# Altium schematic symbol library R45_Driver.SchLib: 35 symbols
Pins are listed as number, name and electrical type; pins without a type are passive.

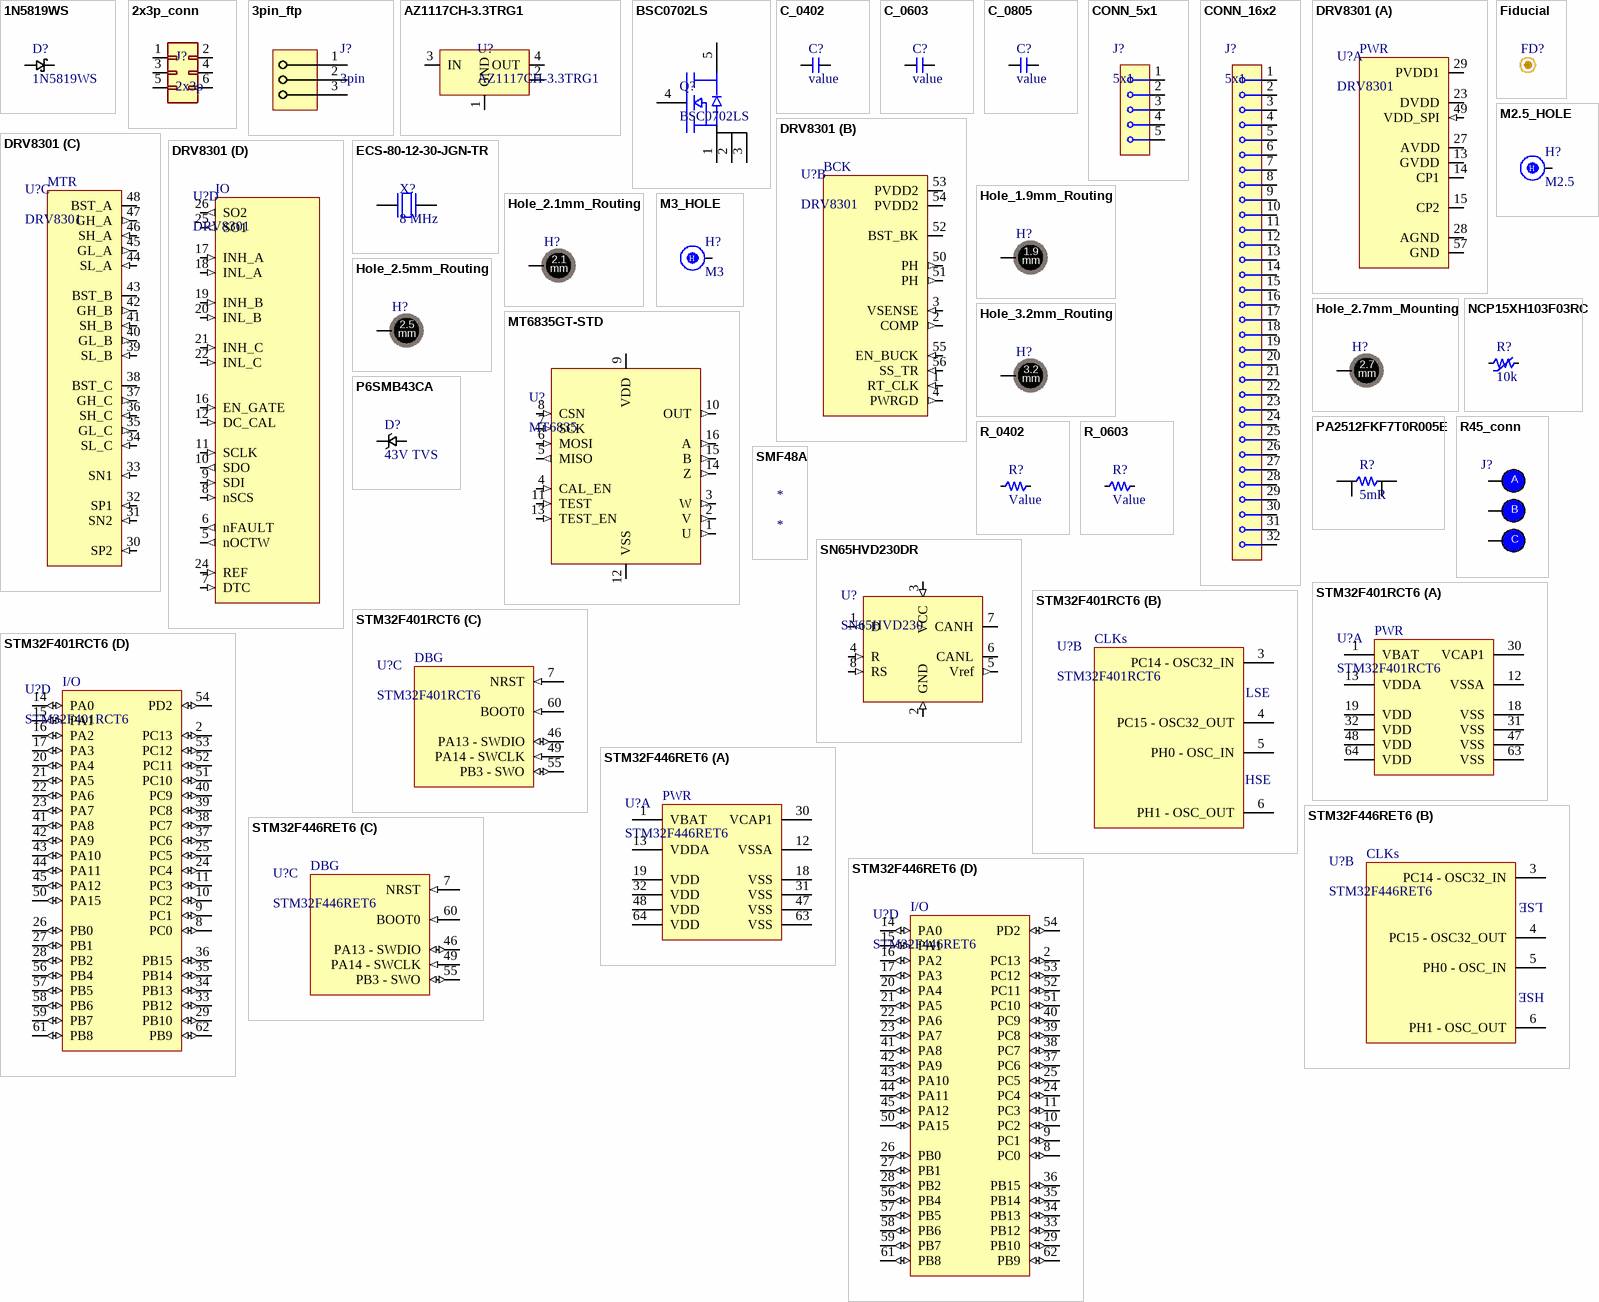
[diagram p0: symbols 1N5819WS to STM32F446RET6]

## 1N5819WS
designator D?
40V 600mV@1A 1A SOD-323  Schottky; LCSC: C191023
footprint SOD323 (Molded Diode, 2-Leads, Body 2.50x1.30mm, IPC Medium Density)
pins: 1, 2

## 2x3p_conn
designator J?, comment 2x3p
2x3 male pin header; LCSC: C124390
footprint 2x3p_conn
pins: 1, 2, 3, 4, 5, 6

## 3pin_ftp
designator J?, comment 3pin  (no BOM)
footprint 3pin_ftp
pins: 1, 2, 3

## AZ1117CH-3.3TRG1
designator U?
Fixed Positive LDO Regulator, 3.3V, 1.3V Dropout, BIPolar, PDSO3; Manufacturer: Diodes; Package Body Material: Plastic; Dropout Voltage1-Nom: 1.2V; Input Voltage Absolute-Max: 18V; Max Supply Voltage: 15V; Line Regulation-Max: 0.01%; Load Regulation-Max: 0.015%; Channels: 1; Output Current1-Max: 800mA; Output Voltage1-Max: 3.365V; Output Voltage1-Min: 3.235V; Regulator Type: FIXED POSITIVE SINGLE OUTPUT LDO REGULATOR; Voltage Tolerance-Max: 1.97%; Qualification Status: Not Qualified; Supplier 1: Future Electronics; Manufacturer Part Number: AZ1117CH-3.3TRG1; RoHS: Yes; Category: Voltage Regulators - Linear; Stock 1: 820000; Pricing 1: 4000=0.0702, 16000=0.0672, 40000=0.0653, 100000=0.0634, 160000=0.0607 (USD); Case/Package: SOP; Pins: 3; Package Shape: Rectangular; Terminal Finish: Tin; JESD-609 Code: e3; Adjustability: FIXED; Dropout Voltage1-Max: 1.3V; JESD-30 Code: R-PDSO-G3; Moisture Sensitivity Level: 1; Number of Outputs: 1; Operating Temperature, TJ-Max: 125°C; Operating Temperature, TJ-Min: -20°C; Output Voltage1-Nom: 3.3V; Package Style: SMALL OUTLINEMeter; Packaging: Tape and Reel; Surface Mount: Yes; Technology: BIPOLAR; Terminal Form: Gull Wing; Terminal Position: DUAL; Length: 6.5mm; Width: 3.5mm; Terminal Pitch: 2.3mm; Height - Seated (Max): 1.8mm; Reach SVHC Compliant: Yes; RoHS Compliant: Yes; ComponentLink1URL: https://datasheet.ciiva.com:443/pdfs/VipMasterIC/IC/DIOD/DIOD-S-A0007713706/DIOD-S-A0007713706-1.pdf?src-supplier=IHS+Markit; ComponentLink1Description: https://datasheet.ciiva.com:443/pdfs/VipMasterIC/IC/DIOD/DIOD-S-A0007713706/DIOD-S-A0007713706-1.pdf?src-supplier=IHS+Markit; ComponentLink2URL: https://datasheet.ciiva.com/29569/az1117c-29569914.pdf?src-supplier=Digi-Key; ComponentLink2Description: https://datasheet.ciiva.com/29569/az1117c-29569914.pdf?src-supplier=Digi-Key; ComponentLink3URL: https://datasheet.ciiva.com/29569/az1117c-29569915.pdf?src-supplier=Digi-Key; ComponentLink3Description: https://datasheet.ciiva.com/29569/az1117c-29569915.pdf?src-supplier=Digi-Key; ComponentLink4URL: https://datasheet.ciiva.com/29569/az1117c-29569913.pdf?src-supplier=Digi-Key; ComponentLink4Description: https://datasheet.ciiva.com/29569/az1117c-29569913.pdf?src-supplier=Digi-Key; Supplier Part Number 1: 6047233
footprint AZ1117CH-3.3TRG1 (SOT223, 4-Leads, Body 6.51x7.00mm (avg), Pitch 2.30mm, IPC Medium Density)
pins: 1 GND (power), 2 OUT (power), 3 IN (power), 4 OUT (power)

## BSC0702LS
designator Q?
60V, 134A, 2.7mΩ N-FET; LCSC: C501503
footprint PG-TDSON-8 (Power Mosfet footprint)
pins: 1, 2, 3, 4, 5

## C_0402
designator C?, comment value
0402 cap
footprint C0402 (Chip Capacitor, 2-Leads, Body 1.00x0.50mm, IPC Medium Density)
pins: 1, 2

## C_0603
designator C?, comment value
0603 cap
footprint C0603 (Chip Capacitor, 2-Leads, Body 1.60x0.80mm, IPC Medium Density)
pins: 1, 2

## C_0805
designator C?, comment value
0805 cap
footprint C0805 (Chip Capacitor, 2-Leads, Body 2.00x1.25mm, IPC Medium Density)
pins: 1, 2

## CONN_5x1
designator J?, comment 5x1  (no BOM)
footprint CONN_5x1
pins: 1, 2, 3, 4, 5

## CONN_16x2
designator J?, comment 5x1  (no BOM)
footprint CONN_16x2
pins: 1, 2, 3, 4, 5, 6, 7, 8, 9, 10, 11, 12, 13, 14, 15, 16, 17, 18, 19, 20, 21, 22, 23, 24, 25, 26, 27, 28, 29, 30, 31, 32

## DRV8301
designator U?
Brushless DC Motor Controller, 2.3A, PDSO56; Manufacturer: Texas Instruments; Manufacturer Part Number: DRV8301DCAR; Package Body Material: Plastic; Channels: 1; Package Equivalence Code: TSSOP56,.3,20; Power Supplies: 8/60V; Max Supply Voltage: 60V; Min Supply Voltage: 6V; Nominal Supply Voltage: 8V; Qualification Status: Not Qualified; LCSC: C98969; Supplier: Mouser; Supplier Part Number: 595-DRV8301DCAR; RoHS: Yes; Category: Gate Drivers; Stock: 5803; Pricing: 1=5.83, 10=4.13, 50=4.13, 100=3.75, 1000=3.38, 10000=3.29 (USD); Case/Package: HTSSOP; Pins: 56; Package Shape: Rectangular; Terminal Finish: Nickel; Min Operating Temperature: -40°C; Max Operating Temperature: 125°C; JESD-609 Code: e4; Throw Configuration: BRUSHLESS DC MOTOR CONTROLLER; JESD-30 Code: R-PDSO-G56; Moisture Sensitivity Level: 3; Max Output current: 2.3A; Package Style: SMALL OUTLINE, HEAT SINK/SLUG, THIN PROFILE, SHRINK PITCHMeter; Peak Reflow Temperature (Cel): 260°C; Surface Mount: Yes; Terminal Form: Gull Wing; Terminal Position: DUAL; Length: 14mm; Width: 6.1mm; Height - Seated (Max): 1.2mm; Terminal Pitch: 0.5mm; Temperature Grade: AUTOMOTIVE; Reach SVHC Compliant: Yes; RoHS Compliant: Yes; ComponentLink1URL: https://www.ti.com:443/lit/ds/symlink/drv8301.pdf?src-supplier=IHS+Markit; ComponentLink1Description: https://www.ti.com:443/lit/ds/symlink/drv8301.pdf?src-supplier=IHS+Markit; ComponentLink2URL: https://datasheet.ciiva.com/1958/drv8301-1958834.pdf?src-supplier=Digikey; ComponentLink2Description: https://datasheet.ciiva.com/1958/drv8301-1958834.pdf?src-supplier=Digikey; ComponentLink3URL: https://datasheet.ciiva.com/15109/getdatasheetpartid-375865-15109501.pdf?src-supplier=Verical; ComponentLink3Description: https://datasheet.ciiva.com/15109/getdatasheetpartid-375865-15109501.pdf?src-supplier=Verical; ComponentLink4URL: https://datasheet.ciiva.com/1500/1882248-1500551.pdf?src-supplier=Element14; ComponentLink4Description: https://datasheet.ciiva.com/1500/1882248-1500551.pdf?src-supplier=Element14; ComponentLink5URL: https://datasheet.ciiva.com/3228/drv8301-3228991.pdf?src-supplier=Avnet; ComponentLink5Description: https://datasheet.ciiva.com/3228/drv8301-3228991.pdf?src-supplier=Avnet; ComponentLink6URL: https://datasheet.ciiva.com/1958/drv8301-1958835.pdf?src-supplier=Digikey; ComponentLink6Description: https://datasheet.ciiva.com/1958/drv8301-1958835.pdf?src-supplier=Digikey; ComponentLink7URL: https://datasheet.ciiva.com/1958/drv8301-1958836.pdf?src-supplier=Digikey; ComponentLink7Description: https://datasheet.ciiva.com/1958/drv8301-1958836.pdf?src-supplier=Digikey
footprint DRV8301 (TSSOP, 56-Leads, Body 14.00x6.10mm, Pitch 0.50mm, Thermal Pad 6.35x3.61mm, IPC Medium Density)
part A pins: 13 GVDD (power) "Internal gate driver voltage regulator. GVDD cap should connect to GND", 14 CP1 (power) "Charge pump pin 1, ceramic capacitor should be used between CP1 and CP2", 15 CP2 (power) "Charge pump pin 2, ceramic capacitor should be used between CP1 and CP2", 23 DVDD (power) ""Internal 3.3-V supply voltage. DVDD cap should connect to AGND. This is an output, but not specified / to drive external circuitry."", 27 AVDD (power) ""Internal 6-V supply voltage, AVDD cap should always be installed and connected to AGND. This is an / output, but not specified to drive external circuitry."", 28 AGND (power) "Analog ground pin. Connect directly to GND (PowerPAD).", 29 PVDD1 (power) ""Power supply pin for gate driver, current shunt amplifier, and SPI communication. PVDD1 is / independent of buck power supply, PVDD2. PVDD1 cap should connect to GND"", 49 VDD_SPI (in) ""SPI supply pin to support 3.3-V or 5-V logic. Connect to the same supply that the MCU uses for SPI / operation."", 57 GND (power) ""GND pin. The exposed power pad must be electrically connected to ground plane through soldering to / PCB for proper operation and connected to bottom side of PCB through vias for better thermal / spreading.""
part B pins: 1 RT_CLK (in) ""Resistor timing and external clock for buck regulator. Resistor should connect to GND (PowerPAD™) / with very short trace to reduce the potential clock jitter due to noise."", 2 COMP (out) "Buck error amplifier output and input to the output switch current comparator.", 3 VSENSE (in) "Buck output voltage sense pin. Inverting node of error amplifier.", 4 PWRGD (out) ""An open-drain output with external pullup resistor required. Asserts low if buck output voltage is low / due to thermal shutdown, dropout, overvoltage, or EN_BUCK shut down"", 50 PH (out) "The source of the internal high side MOSFET of buck converter", 51 PH (out) "The source of the internal high side MOSFET of buck converter", 52 BST_BK (power) "Bootstrap cap pin for buck converter", 53 PVDD2 (power) "Power supply pin for buck converter, PVDD2 cap should connect to GND.", 54 PVDD2 (power) "Power supply pin for buck converter, PVDD2 cap should connect to GND.", 55 EN_BUCK (in) ""Enable buck converter. Internal pullup current source. Pull below 1.2 V to disable. Float to enable. / Adjust the input undervoltage lockout with two resistors"", 56 SS_TR (in) ""Buck soft-start and tracking. An external capacitor connected to this pin sets the output rise time. / Because the voltage on this pin overrides the internal reference, it can be used for tracking and / sequencing. Cap should connect to GND""
part C pins: 30 SP2 (in) ""Input of current amplifier 2 (connecting to positive input of amplifier). Recommend to connect to ground / side of the sense resistor for the best common mode rejection."", 31 SN2 (in) "Input of current amplifier 2 (connecting to negative input of amplifier).", 32 SP1 (in) ""Input of current amplifier 1 (connecting to positive input of amplifier). Recommend to connect to ground / side of the sense resistor for the best common mode rejection."", 33 SN1 (in) "Input of current amplifier 1 (connecting to negative input of amplifier).", 34 SL_C (in) ""Low-Side MOSFET source connection, half-bridge C. Low-side V_{DS} measured between this pin and / SH_C."", 35 GL_C (out) "Gate drive output for low-side MOSFET, half-bridge C", 36 SH_C (in) ""High-side MOSFET source connection, half-bridge C. High-side V_{DS} measured between this pin and / PVDD1."", 37 GH_C (out) "Gate drive output for high-side MOSFET, half-bridge C", 38 BST_C (power) "Bootstrap cap pin for half-bridge C", 39 SL_B (in) ""Low-side MOSFET source connection, half-bridge B. Low-side V_{DS} measured between this pin and / SH_B."", 40 GL_B (out) "Gate drive output for low-side MOSFET, half-bridge B", 41 SH_B (in) ""High-side MOSFET source connection, half-bridge B. High-side V_{DS} measured between this pin and / PVDD1."", 42 GH_B (out) "Gate drive output for high-side MOSFET, half-bridge B", 43 BST_B (power) "Bootstrap cap pin for half-bridge B", 44 SL_A (in) ""Low-side MOSFET source connection, half-bridge A. Low-side V_{DS} measured between this pin and / SH_A."", 45 GL_A (out) "Gate drive output for low-side MOSFET, half-bridge A", 46 SH_A (in) ""High-side MOSFET source connection, half-bridge A. High-side V_{DS} measured between this pin and / PVDD1."", 47 GH_A (out) "Gate drive output for high-side MOSFET, half-bridge A", 48 BST_A (power) "Bootstrap cap pin for half-bridge A"
part D pins: 5 nOCTW (out) ""Overcurrent and/or overtemperature warning indicator. This output is open drain with external pullup / resistor required. Programmable output mode via SPI registers."", 6 nFAULT (out) "Fault report indicator. This output is open drain with external pullup resistor required.", 7 DTC (in) "Dead-time adjustment with external resistor to GND", 8 nSCS (in) "SPI chip select", 9 SDI (in) "SPI input", 10 SDO (out) "SPI output", 11 SCLK (in) "SPI clock signal", 12 DC_CAL (in) ""When DC_CAL is high, device shorts inputs of shunt amplifiers and disconnects loads. DC offset / calibration can be done through external microcontroller."", 16 EN_GATE (in) "Enable gate driver and current shunt amplifiers. Control buck through EN_BUCK pin.", 17 INH_A (in) "PWM input signal (high side), half-bridge A", 18 INL_A (in) "PWM input signal (low side), half-bridge A", 19 INH_B (in) "PWM input signal (high side), half-bridge B", 20 INL_B (in) "PWM input signal (low side), half-bridge B", 21 INH_C (in) "PWM input signal (high side), half-bridge C", 22 INL_C (in) "PWM input signal (low side), half-bridge C", 24 REF (in) ""Reference voltage to set output of shunt amplifiers with a bias voltage which equals to half of the / voltage set on this pin. Connect to ADC reference in microcontroller."", 25 SO1 (out) "Output of current amplifier 1", 26 SO2 (out) "Output of current amplifier 2"
part A text: PWR
part B text: BCK
part C text: MTR
part D text: IO

## ECS-80-12-30-JGN-TR
designator X?, comment 8 MHz
Crystals ECX-53 8.000 MHz 12 pF 5032 2 pad +/-20/30 ppm -40 +85 C 100O Max ESR; Manufacturer: ECS International; Manufacturer Part Number: ECS-80-12-30-JGN-TR; Supplier 1: Arrow Electronics; RoHS: No; Stock 1: 108; Pricing 1: 1=0.5714, 10=0.5153, 50=0.5093, 100=0.4701, 500=0.4513, 1000=0.4297 (USD); Supplier Part Number 1: ECS-80-12-30-JGN-TR
footprint X_5032 (5032 - 2 pin cyrstal)
pins: 1, 2

## Fiducial
designator FD?
footprint Fiducial

## Hole_1.9mm_Routing
designator H?  (no BOM)
Mounting, plated hole, 1.9 mm diameter, AWG14
footprint Hole_1.9mm_Routing
pins: 1
text: 1.9; mm

## Hole_2.1mm_Routing
designator H?  (no BOM)
Mounting, plated hole, 2.1 mm diameter, AWG18
footprint Hole_2.1mm_Routing
pins: 1
text: 2.1; mm

## Hole_2.5mm_Routing
designator H?  (no BOM)
Mounting, plated hole, 2.5 mm diameter, AWG16
footprint Hole_2.5mm_Routing
pins: 1
text: 2.5; mm

## Hole_2.7mm_Mounting
designator H?  (no BOM)
Mounting, plated-thtough hole, 2.7mm
footprint Hole_2.7mm_Routing
pins: 1
text: 2.7; mm

## Hole_3.2mm_Routing
designator H?  (no BOM)
Mounting, plated hole, 3.2 mm diameter, AWG14
footprint Hole_3.2mm_Routing
pins: 1
text: 3.2; mm

## M2.5_HOLE
designator H?, comment M2.5  (no BOM)
M2.5 hole with connection
footprint M2.5_HOLE
pins: 1
text: H

## M3_HOLE
designator H?, comment M3  (no BOM)
M3 hole with connection
footprint M3_HOLE
pins: 1
text: H

## MT6835GT-STD
designator U?, comment MT6835
footprint TSOP65P640X120-16N (TSOP, 16-Leads, Body 5.00x4.40mm, Pitch 0.65mm, IPC Medium Density)
pins: 1 U (out), 2 V (out), 3 W (out), 4 CAL_EN (in), 5 MISO (out), 6 MOSI (in), 7 SCK (in), 8 CSN (in), 9 VDD (power), 10 OUT (out), 11 TEST (in), 12 VSS (power), 13 TEST_EN (in), 14 Z (out), 15 B (out), 16 A (out)

## NCP15XH103F03RC
designator R?, comment 10k
10kΩ 310uA 100mW ±1% 3380K ±1% 0402 NTC Thermistors ROHS; LCSC: C77131
footprint R0402 (Chip Resistor, 2-Leads, Body 1.00x0.50mm, IPC Medium Density)
pins: 1, 2

## P6SMB43CA
designator D?, comment 43V TVS
LCSC: C20538993
footprint P6SMB (Molded Diode, 2-Leads, Body 5.40x3.63mm, IPC Medium Density)
pins: 1, 2

## PA2512FKF7T0R005E
designator R?, comment 5mR
3W ±100ppm/℃ ±1% 5mΩ 2512 Chip Resistor; LCSC: C728323
footprint R2512 (Chip Resistor, 2-Leads, Body 6.35x3.20mm, IPC Medium Density)
pins: 1, 2, 3, 4

## R45_conn
designator J?  (no BOM)
footprint R45_connector
pins: A, B, C

## R_0402
designator R?, comment Value
0402 62.5mW
footprint R0402 (Chip Resistor, 2-Leads, Body 1.00x0.50mm, IPC Medium Density)
pins: 1, 2

## R_0603
designator R?, comment Value
0603 100mW
footprint R0603 (Chip Resistor, 2-Leads, Body 1.60x0.80mm, IPC Medium Density)
pins: 1, 2

## SMF48A
designator *

## SN65HVD230DR
designator U?, comment SN65HVD230
Interface Circuit, 1-Trnsvr, BICMOS, PDSO8; Manufacturer: Texas Instruments; Manufacturer Part Number: SN65HVD230DR; Package Body Material: Plastic; Data Rate: 1000Mbps; Channels: 1; Package Equivalence Code: SOP8,.25; Power Supplies: 3.3V; Max Supply Current: 17uA; Qualification Status: Not Qualified; Supplier: Mouser; Supplier Part Number: 595-SN65HVD230DR; RoHS: Yes; Category: Interface ICs; Stock: 21679; Pricing: 1=1.95, 10=1.44, 50=1.31, 100=1.17, 1000=1.03, 10000=0.967 (USD); Case/Package: SOP; Pins: 8; Package Shape: Rectangular; Terminal Finish: Nickel; Min Operating Temperature: -40°C; Max Operating Temperature: 85°C; JESD-609 Code: e4; JESD-30 Code: R-PDSO-G8; Moisture Sensitivity Level: 1; Number of Transceivers: 1; Package Style: SMALL OUTLINEMeter; Peak Reflow Temperature (Cel): 260°C; Nominal Supply Voltage: 3.3V; Surface Mount: Yes; Technology: BICMOS; Telecom IC Type: INTERFACE CIRCUIT; Terminal Form: Gull Wing; Terminal Position: DUAL; Length: 4.9mm; Width: 3.9mm; Height - Seated (Max): 1.75mm; Terminal Pitch: 1.27mm; Temperature Grade: INDUSTRIAL; Reach SVHC Compliant: Yes; RoHS Compliant: Yes; ComponentLink1URL: https://www.ti.com:443/lit/ds/symlink/sn65hvd230.pdf?src-supplier=IHS+Markit; ComponentLink1Description: https://www.ti.com:443/lit/ds/symlink/sn65hvd230.pdf?src-supplier=IHS+Markit; ComponentLink2URL: https://datasheet.ciiva.com/3303/slos346k-3303008.pdf?src-supplier=Avnet; ComponentLink2Description: https://datasheet.ciiva.com/3303/slos346k-3303008.pdf?src-supplier=Avnet; ComponentLink3URL: https://datasheet.ciiva.com/28652/1695240-28652369.pdf?src-supplier=Element14; ComponentLink3Description: https://datasheet.ciiva.com/28652/1695240-28652369.pdf?src-supplier=Element14; ComponentLink4URL: https://datasheet.ciiva.com/4781/sn65hvd230-86923-4781328.pdf?src-supplier=Mouser; ComponentLink4Description: https://datasheet.ciiva.com/4781/sn65hvd230-86923-4781328.pdf?src-supplier=Mouser; ComponentLink5URL: https://datasheet.ciiva.com/27052/1495682-27052294.pdf?src-supplier=Jameco; ComponentLink5Description: https://datasheet.ciiva.com/27052/1495682-27052294.pdf?src-supplier=Jameco; ComponentLink6URL: https://datasheet.ciiva.com/22694/1887486-22694362.pdf?src-supplier=Element14; ComponentLink6Description: https://datasheet.ciiva.com/22694/1887486-22694362.pdf?src-supplier=Element14; ComponentLink7URL: https://datasheet.ciiva.com/1705/sn65hvd230-1705286.pdf?src-supplier=Digikey; ComponentLink7Description: https://datasheet.ciiva.com/1705/sn65hvd230-1705286.pdf?src-supplier=Digikey; ComponentLink8URL: https://datasheet.ciiva.com/1705/sn65hvd230-1705287.pdf?src-supplier=Digikey; ComponentLink8Description: https://datasheet.ciiva.com/1705/sn65hvd230-1705287.pdf?src-supplier=Digikey; ComponentLink9URL: https://datasheet.ciiva.com/1705/sn65hvd230-1705288.pdf?src-supplier=Digikey; ComponentLink9Description: https://datasheet.ciiva.com/1705/sn65hvd230-1705288.pdf?src-supplier=Digikey; ComponentLink10URL: https://datasheet.ciiva.com/15150/getdatasheetpartid-393721-15150028.pdf?src-supplier=Verical; ComponentLink10Description: https://datasheet.ciiva.com/15150/getdatasheetpartid-393721-15150028.pdf?src-supplier=Verical
footprint SOIC8_TI (SOIC, 8-Leads, Body 4.90x3.90mm, Pitch 1.27mm, IPC Medium Density)
pins: 1 D (out), 2 GND (in), 3 VCC (in), 4 R (in), 5 Vref (out), 6 CANL (io), 7 CANH (io), 8 RS (in)

## STM32F401RCT6
designator U?
RISC Microcontroller, 32-Bit, FLASH, CORTEX-M4F CPU, 84MHz, CMOS, PQFP64; Manufacturer: STMicroelectronics; Package Body Material: Plastic; Clock Frequency: 26MHz; Number of I/O Lines: 50; Package Equivalence Code: QFP64,.47SQ,20; Power Supplies: 1.8/3.3; Max Supply Voltage: 3.6V; Min Supply Voltage: 1.7V; Nominal Supply Voltage: 3.3V; Peripherals: POR,DMA; Interface: I2C,SPI,USB,I2S,IrDA,USART,LIN; Qualification Status: Not Qualified; Supplier: Farnell; Supplier Part Number: 2393644; Manufacturer Part Number: STM32F401RCT6; RoHS: Yes; Category: Microcontrollers; Stock: 14315; Pricing: 1=7.16, 10=4.89, 25=4.31, 50=4.18, 100=3.54, 250=3.23, 500=2.97 (EUR); Case/Package: LFQFP; Pins: 64; Package Shape: Square; Terminal Finish: Tin; Min Operating Temperature: -40°C; Max Operating Temperature: 85°C; JESD-30 Code: S-PQFP-G64; Surface Mount: Yes; Technology: CMOS; Terminal Form: Gull Wing; Terminal Position: QUAD; JESD-609 Code: e3; Moisture Sensitivity Level: 3; Length: 10mm; Width: 10mm; Height - Seated (Max): 1.6mm; Terminal Pitch: 0.5mm; Temperature Grade: INDUSTRIAL; Reach SVHC Compliant: Yes; RoHS Compliant: Yes; ComponentLink1URL: https://datasheet.ciiva.com:443/pdfs/VipMasterIC/IC/SGST/SGST-S-A0003533215/SGST-S-A0003533215-1.pdf?src-supplier=IHS+Markit; ComponentLink1Description: https://datasheet.ciiva.com:443/pdfs/VipMasterIC/IC/SGST/SGST-S-A0003533215/SGST-S-A0003533215-1.pdf?src-supplier=IHS+Markit; ComponentLink2URL: https://datasheet.ciiva.com/29721/dm00086815-29721898.pdf?src-supplier=Digikey; ComponentLink2Description: https://datasheet.ciiva.com/29721/dm00086815-29721898.pdf?src-supplier=Digikey; ComponentLink3URL: https://datasheet.ciiva.com/24182/dm00086815-24182823.pdf?src-supplier=Future+Electronics; ComponentLink3Description: https://datasheet.ciiva.com/24182/dm00086815-24182823.pdf?src-supplier=Future+Electronics
footprint STM32 - LQFP64 (TSQFP, 64-Leads, Body 10.00x10.00mm, Pitch 0.50mm, IPC Medium Density)
part A pins: 1 VBAT (power), 12 VSSA (power), 13 VDDA (power), 18 VSS (power), 19 VDD (power), 30 VCAP1, 31 VSS (power), 32 VDD (power), 47 VSS (power), 48 VDD (power), 63 VSS (power), 64 VDD (power)
part B pins: 3 PC14 - OSC32_IN, 4 PC15 - OSC32_OUT, 5 PH0 - OSC_IN, 6 PH1 - OSC_OUT
part C pins: 7 NRST (in), 46 PA13 - SWDIO (io), 49 PA14 - SWCLK (in), 55 PB3 - SWO (io), 60 BOOT0 (in)
part D pins: 2 PC13 (io), 8 PC0 (io), 9 PC1 (io), 10 PC2 (io), 11 PC3 (io), 14 PA0 (io), 15 PA1 (io), 16 PA2 (io), 17 PA3 (io), 20 PA4 (io), 21 PA5 (io), 22 PA6 (io), 23 PA7 (io), 24 PC4 (io), 25 PC5 (io), 26 PB0 (io), 27 PB1 (io), 28 PB2 (io), 29 PB10 (io), 33 PB12 (io), 34 PB13 (io), 35 PB14 (io), 36 PB15 (io), 37 PC6 (io), 38 PC7 (io), 39 PC8 (io), 40 PC9 (io), 41 PA8 (io), 42 PA9 (io), 43 PA10 (io), 44 PA11 (io), 45 PA12 (io), 50 PA15 (io), 51 PC10 (io), 52 PC11 (io), 53 PC12 (io), 54 PD2 (io), 56 PB4 (io), 57 PB5 (io), 58 PB6 (io), 59 PB7 (io), 61 PB8 (io), 62 PB9 (io)
part A text: PWR
part B text: CLKs; LSE; HSE
part C text: DBG
part D text: I/O

## STM32F446RET6
designator U?
RISC Microcontroller, 32-Bit, FLASH, CORTEX-M4F CPU, 180MHz, CMOS, PQFP64; Manufacturer: STMicroelectronics; Package Body Material: Plastic; Package Equivalence Code: QFP64,.47SQ,20; Power Supplies: 1.8/3.3V; Speed: 180RPM; Max Supply Current: 115mA; Qualification Status: Not Qualified; Supplier 1: Mouser; Manufacturer Part Number: STM32F446RET6; RoHS: Yes; Category: Microcontrollers; Stock 1: 4750; Pricing 1: 1=12.45, 10=11.25, 50=10.54, 100=9.5, 1000=6.72, 10000=6.72 (USD); Case/Package: QFP; Pins: 64; Package Shape: Square; Min Operating Temperature: -40°C; Max Operating Temperature: 85°C; JESD-30 Code: S-PQFP-G64; Package Style: FLATPACKMeter; Surface Mount: Yes; Technology: CMOS; Terminal Form: Gull Wing; Terminal Position: QUAD; Terminal Pitch: 0.5mm; Temperature Grade: INDUSTRIAL; Reach SVHC Compliant: Yes; RoHS Compliant: Yes; ComponentLink1URL: https://datasheet.ciiva.com:443/pdfs/VipMasterIC/IC/SGST/SGST-S-A0000954157/SGST-S-A0000954273-1.pdf?src-supplier=IHS+Markit; ComponentLink1Description: https://datasheet.ciiva.com:443/pdfs/VipMasterIC/IC/SGST/SGST-S-A0000954157/SGST-S-A0000954273-1.pdf?src-supplier=IHS+Markit; ComponentLink2URL: http://www.farnell.com/datasheets/2309063.pdf?src-supplier=Farnell; ComponentLink2Description: http://www.farnell.com/datasheets/2309063.pdf?src-supplier=Farnell; ComponentLink3URL: http://www.mouser.com/ds/2/389/stm32f446mc-956216.pdf?src-supplier=Mouser; ComponentLink3Description: http://www.mouser.com/ds/2/389/stm32f446mc-956216.pdf?src-supplier=Mouser; ComponentLink4URL: http://www.st.com/content/ccc/resource/technical/document/datasheet/65/cb/75/50/53/d6/48/24/DM00141306.pdf/files/DM00141306.pdf/jcr:content/translations/en.DM00141306.pdf?src-supplier=Digi-Key; ComponentLink4Description: http://www.st.com/content/ccc/resource/technical/document/datasheet/65/cb/75/50/53/d6/48/24/DM00141306.pdf/files/DM00141306.pdf/jcr:content/translations/en.DM00141306.pdf?src-supplier=Digi-Key; ComponentLink5URL: https://datasheet.octopart.com/STM32F446RET6-STMicroelectronics-datasheet-58295083.pdf?src-supplier=Future+Electronics; ComponentLink5Description: https://datasheet.octopart.com/STM32F446RET6-STMicroelectronics-datasheet-58295083.pdf?src-supplier=Future+Electronics; ComponentLink6URL: https://datasheet.octopart.com/STM32F446RET6-STMicroelectronics-datasheet-41797127.pdf?src-supplier=Element14; ComponentLink6Description: https://datasheet.octopart.com/STM32F446RET6-STMicroelectronics-datasheet-41797127.pdf?src-supplier=Element14; ComponentLink7URL: http://www.farnell.com/datasheets/2309063.pdf?src-supplier=Newark; ComponentLink7Description: http://www.farnell.com/datasheets/2309063.pdf?src-supplier=Newark; ComponentLink8URL: http://www.farnell.com/datasheets/2309063.pdf?src-supplier=Element14; ComponentLink8Description: http://www.farnell.com/datasheets/2309063.pdf?src-supplier=Element14; ComponentLink9URL: https://datasheet.octopart.com/STM32F446RET6-STMicroelectronics-datasheet-83961502.pdf?src-supplier=SHENGYU+ELECTRONICS; ComponentLink9Description: https://datasheet.octopart.com/STM32F446RET6-STMicroelectronics-datasheet-83961502.pdf?src-supplier=SHENGYU+ELECTRONICS; Supplier Part Number 1: 511-STM32F446RET6
footprint STM32 - LQFP64 (TSQFP, 64-Leads, Body 10.00x10.00mm, Pitch 0.50mm, IPC Medium Density)
part A pins: 1 VBAT (power), 12 VSSA (power), 13 VDDA (power), 18 VSS (power), 19 VDD (power), 30 VCAP1, 31 VSS (power), 32 VDD (power), 47 VSS (power), 48 VDD (power), 63 VSS (power), 64 VDD (power)
part B pins: 3 PC14 - OSC32_IN, 4 PC15 - OSC32_OUT, 5 PH0 - OSC_IN, 6 PH1 - OSC_OUT
part C pins: 7 NRST (in), 46 PA13 - SWDIO (io), 49 PA14 - SWCLK (in), 55 PB3 - SWO (io), 60 BOOT0 (in)
part D pins: 2 PC13 (io), 8 PC0 (io), 9 PC1 (io), 10 PC2 (io), 11 PC3 (io), 14 PA0 (io), 15 PA1 (io), 16 PA2 (io), 17 PA3 (io), 20 PA4 (io), 21 PA5 (io), 22 PA6 (io), 23 PA7 (io), 24 PC4 (io), 25 PC5 (io), 26 PB0 (io), 27 PB1 (io), 28 PB2 (io), 29 PB10 (io), 33 PB12 (io), 34 PB13 (io), 35 PB14 (io), 36 PB15 (io), 37 PC6 (io), 38 PC7 (io), 39 PC8 (io), 40 PC9 (io), 41 PA8 (io), 42 PA9 (io), 43 PA10 (io), 44 PA11 (io), 45 PA12 (io), 50 PA15 (io), 51 PC10 (io), 52 PC11 (io), 53 PC12 (io), 54 PD2 (io), 56 PB4 (io), 57 PB5 (io), 58 PB6 (io), 59 PB7 (io), 61 PB8 (io), 62 PB9 (io)
part A text: PWR
part B text: CLKs; LSE; HSE
part C text: DBG
part D text: I/O

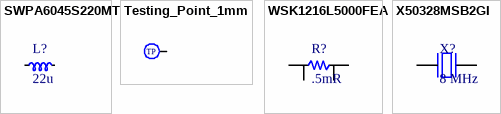
[diagram p1: symbols SWPA6045S220MT to X50328MSB2GI]

## SWPA6045S220MT
designator L?, comment 22u
1.8A 22uH ±20% 2.2A SMD,6x6mm Power Inductors ROHS; LCSC: C83454
footprint L_SRN6045
pins: 1, 2

## Testing_Point_1mm
designator TP?  (no BOM)
1mm testing point
footprint TestingPoint_1mm
pins: 1
text: TP

## WSK1216L5000FEA
designator R?, comment .5mR
5W ±150ppm/℃ ±1% 0.5mΩ 1216 Chip Resistor - Surface Mount ROHS; LCSC: C2983559
footprint WSK1216 (Power Metal Strip Resistors)
pins: 1, 2, 3, 4

## X50328MSB2GI
designator X?, comment 8 MHz
8MHz Surface Mount Crystal 20pF ±10ppm ±20ppm SMD5032 Crystals ROHS; LCSC: C115962
footprint X_5032 (5032 - 2 pin cyrstal)
pins: 1, 2